# Altium footprint library 140УД17А.PcbLib: 1 footprints
Each footprint in its own frame and in the unit in brackets; x right, y up, seen from the top. Pads: shape width x height; smd on the part's side, far side on the other; paste and mask are expansions set on the pad; w line width, h text height; cw(c..) or ccw(c..) is an arc to the next point about the centre after c.
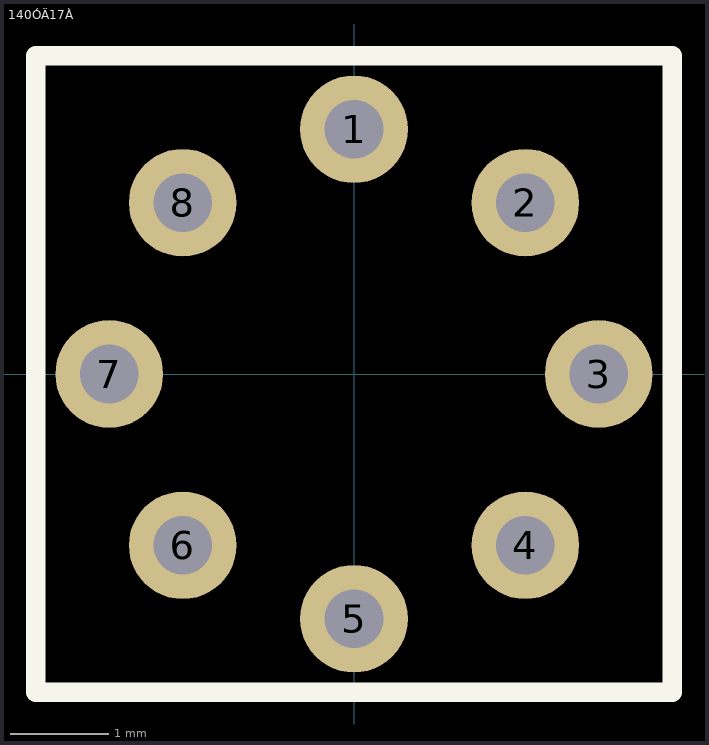
[diagram p0: the footprint, top view; thin cyan lines are the x and y axes]

## 140ÓÄ17À [mm] "Precision Op Amp"
pads (8):
  round 1.1 hole 0.6: 1(0,2.5) 2(1.75,1.75) 3(2.5,0) 4(1.75,-1.75) 5(0,-2.5) 6(-1.75,-1.75) 7(-2.5,0) 8(-1.75,1.75)
Top Overlay:
  lines w0.2: -3.25,-3.25 -3.25,0 -3.25,3.25 3.25,3.25 3.25,-3.25 -3.25,-3.25